# EAGLE library part TSL2561T (library mbed-HDK-IC)
Sensor Light Digital, 6-TMB
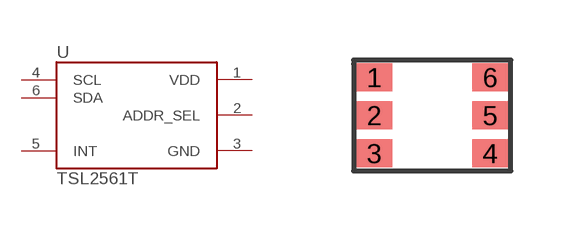
[diagram p17: symbol with the pads of 6-TMB; footprint 6-TMB]

Designator prefix U

## TSL2561T (MF: ams; MFN: TSL2561T; OC-DIGIKEY: TSL2561-TCT-ND; OC-NEWARK: 05M1632)  [6-TMB]
1  VDD
2  ADDR_SEL
3  GND
4  SCL
5  INT
6  SDA

## Footprint 6-TMB (pad centres in mm)
smd 0.9 x 0.7: 1 0,1.9; 2 0,0.95; 3 0,0; 4 2.9,0; 5 2.9,0.95; 6 2.9,1.9